# EAGLE library part BMP280 (library GoatFinder)
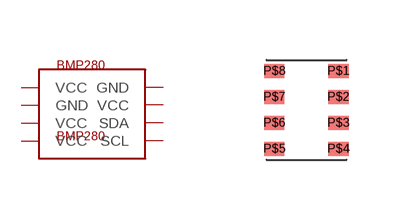
[diagram p7: symbol with the pads of BMP280; footprint BMP280]

Designator prefix -

## BMP280  [BMP280]
P$1  GND
P$2  VCC
P$3  SDA
P$4  SCL
P$5  VCC
P$6  VCC
P$7  GND
P$8  VCC

## Footprint BMP280 (pad centres in mm)
smd 0.5 x 0.35: P$1 0.8,0.975; P$2 0.8,0.325; P$3 0.8,-0.325; P$4 0.8,-0.975; P$5 -0.8,-0.975; P$6 -0.8,-0.325; P$7 -0.8,0.325; P$8 -0.8,0.975